# EAGLE library part USBLC6 (library USB - Suppressor Dioden)
Name des Bauteiles: -->USB-Suppressor 2-Kanal Daten:ESD-Protector 3,5p , ST: USBLC6-2SC6 , Mouser: 511-USBLC6-2SC6 Artikelnummer:#k061681 Datenblatt:www.alldatasheet.com __________________________________________ generated by Eagle Description Tool am : 31.03.2014 10:04:21 erstellt von: hm
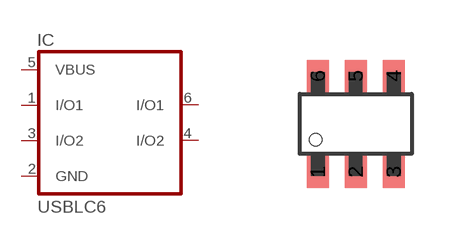
[diagram p0: symbol with the pads of SOT23-6; footprint SOT23-6]

Designator prefix IC

## USBLC6-2SC6  [SOT23-6]
1  I/O1
2  GND
3  I/O2
4  I/O2
5  VBUS
6  I/O1

## Footprint SOT23-6 (pad centres in mm)
smd 0.55 x 0.8: 1 -0.95,-1.2; 2 0,-1.2; 3 0.95,-1.2; 4 0.95,1.2; 5 0,1.2; 6 -0.95,1.2